# Altium schematic symbol library iMag.SchLib: 52 symbols
Pins are listed as number, name and electrical type; pins without a type are passive.

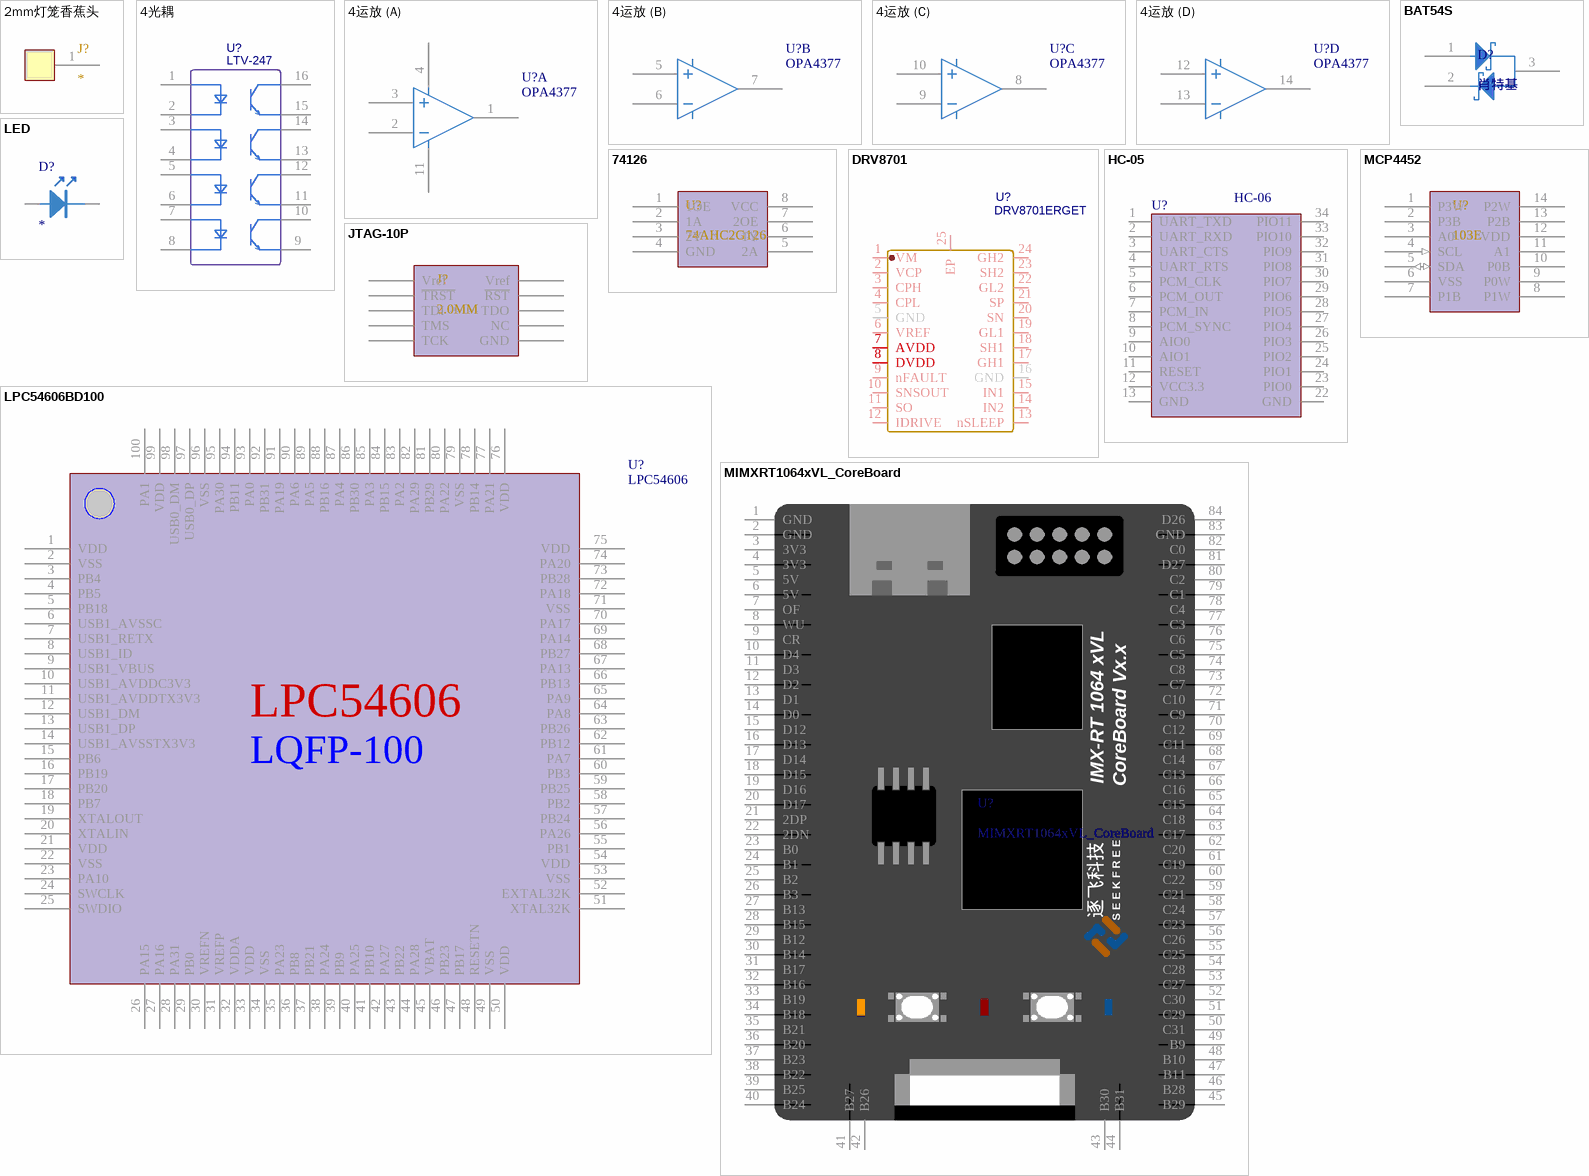
[diagram p0: symbols 2mm灯笼香蕉头 to MIMXRT1064xVL_CoreBoard]

## 2mm灯笼香蕉头
designator J?
footprint Model Name (Footprint not found)
footprint MOTOR (镀金香蕉头2mm)
pins: 1 0

## 4光耦
designator U?, comment LTV-247
BOM_Manufacturer: LITEON; Contributor: LCSC; SMT Type: Extend; BOM_Supplier: LCSC; BOM_Manufacturer Part: LTV-247; BOM_Supplier Part: C115451; BOM_LCSC Assembly: Yes; spicePre: U; spiceSymbolName: LTV-247
footprint WSOP-16 (_L10.3-W5.4-P1.27-LS7.8-BL)
pins: 1 AN1, 2 CAT1, 3 AN2, 4 CAT2, 5 AN3, 6 CAT3, 7 AN4, 8 CAT4, 9 EM4, 10 COL4, 11 EM3, 12 COL3, 13 EM2, 14 COL2, 15 EM1, 16 COL1

## 4运放
designator U?, comment OPA4377
footprint DIP-14
footprint SOIC-14_150MIL
footprint TSSOP-14 (4.96x4.40x1.00 e=0.65（蒜米工坊）)
part A pins: 1, 2, 3, 4, 11
part B pins: 5, 6, 7
part C pins: 8, 9, 10
part D pins: 12, 13, 14

## 74126
designator U?, comment 74AHC2G126
footprint VSSOP-8
pins: 1 1OE, 2 1A, 3 2Y, 4 GND, 5 2A, 6 1Y, 7 2OE, 8 VCC

## BAT54S
designator D?, comment 肖特基
footprint SOT-23 (SOT-23-3)
pins: 1, 2, 3

## DRV8701
designator U?, comment DRV8701ERGET
H桥驱动; BOM_Manufacturer: TI; Contributor: LCSC; BOM_Supplier: LCSC; BOM_Manufacturer Part: DRV8701ERGET; BOM_Supplier Part: C132049; spicePre: U
footprint VQFN-24_24PIN-L4.00-W4.00-PITCH0.50-EP-TL
pins: 1 VM, 2 VCP, 3 CPH, 4 CPL, 5 GND, 6 VREF, 7 AVDD, 8 DVDD, 9 nFAULT, 10 SNSOUT, 11 SO, 12 IDRIVE, 13 nSLEEP, 14 IN2, 15 IN1, 16 GND, 17 GH1, 18 SH1, 19 GL1, 20 SN, 21 SP, 22 GL2, 23 SH2, 24 GH2, 25 EP

## HC-05
designator U?, comment HC-06
蓝牙串口模块
footprint HC-05 (HC-05/06/08V15)
pins: 1 UART_TXD, 2 UART_RXD, 3 UART_CTS, 4 UART_RTS, 5 PCM_CLK, 6 PCM_OUT, 7 PCM_IN, 8 PCM_SYNC, 9 AIO0, 10 AIO1, 11 RESET, 12 VCC3.3, 13 GND, 22 GND, 23 PIO0, 24 PIO1, 25 PIO2, 26 PIO3, 27 PIO4, 28 PIO5, 29 PIO6, 30 PIO7, 31 PIO8, 32 PIO9, 33 PIO10, 34 PIO11

## JTAG-10P
designator J?, comment 2.0MM
footprint IDC-10P
pins: 1 Vref, 2 Vref, 3 ~{TRST}, 4 ~{RST}, 5 TDI, 6 TDO, 7 TMS, 8 NC, 9 TCK, 10 GND

## LED
designator D?
LED
footprint LED 0603B (蓝色0603LED)
footprint LED 0603G (绿色0603LED)
footprint LED 0603R (红色0603LED)
footprint LED 0603W (白色0603LED)
footprint LED 0603Y (黄色0603LED)
footprint LED0805
footprint LED0805红色
footprint LED0805绿色
footprint LED0805黄色
footprint LED-SMD_L1.7-W0.6-RD
pins: A 1, K 2

## LPC54606BD100
designator U?, comment LPC54606
footprint LQFP100 (100-pin low-profile quad flat)
footprint LQFP100 (100-pin low-profile quad flat)
pins: 1 VDD, 2 VSS, 3 PB4, 4 PB5, 5 PB18, 6 USB1_AVSSC, 7 USB1_RETX, 8 USB1_ID, 9 USB1_VBUS, 10 USB1_AVDDC3V3, 11 USB1_AVDDTX3V3, 12 USB1_DM, 13 USB1_DP, 14 USB1_AVSSTX3V3, 15 PB6, 16 PB19, 17 PB20, 18 PB7, 19 XTALOUT, 20 XTALIN, 21 VDD, 22 VSS, 23 PA10, 24 SWCLK, 25 SWDIO, 26 PA15, 27 PA16, 28 PA31, 29 PB0, 30 VREFN, 31 VREFP, 32 VDDA, 33 VDD, 34 VSS, 35 PA23, 36 PB8, 37 PB21, 38 PA24, 39 PB9, 40 PA25, 41 PB10, 42 PA27, 43 PB22, 44 PA28, 45 VBAT, 46 PB23, 47 PB17, 48 RESETN, 49 VSS, 50 VDD, 51 XTAL32K, 52 EXTAL32K, 53 VSS, 54 VDD, 55 PB1, 56 PA26, 57 PB24, 58 PB2, 59 PB25, 60 PB3, 61 PA7, 62 PB12, 63 PB26, 64 PA8, 65 PA9, 66 PB13, 67 PA13, 68 PB27, 69 PA14, 70 PA17, 71 VSS, 72 PA18, 73 PB28, 74 PA20, 75 VDD, 76 VDD, 77 PA21, 78 PB14, 79 VSS, 80 PA22, 81 PB29, 82 PA29, 83 PA2, 84 PB15, 85 PA3, 86 PB30, 87 PA4, 88 PB16, 89 PA5, 90 PA6, 91 PA19, 92 PB31, 93 PA0, 94 PB11, 95 PA30, 96 VSS, 97 USB0_DP, 98 USB0_DM, 99 VDD, 100 PA1
text: LQFP-100

## MCP4452
designator U?, comment 103E
footprint TSSOP-14 (4.96x4.40x1.00 e=0.65（蒜米工坊）)
pins: 1 P3W, 2 P3B, 3 A0, 4 SCL (in), 5 SDA (io), 6 VSS, 7 P1B, 8 P1W, 9 P0W, 10 P0B, 11 A1, 12 VDD, 13 P2B, 14 P2W

## MIMXRT1064xVL_CoreBoard
designator U?
逐飞科技i.MX RT1064核心板整体原理，可直接使用
footprint MIMXRT1064xVL_CoreBoard (逐飞科技i.MX RT1064核心板整体封装，可直接使用)
pins: 1 GND, 2 GND, 3 3V3, 4 3V3, 5 5V, 6 5V, 7 OF, 8 WU, 9 CR, 10 D4, 11 D3, 12 D2, 13 D1, 14 D0, 15 D12, 16 D13, 17 D14, 18 D15, 19 D16, 20 D17, 21 2DP, 22 2DN, 23 B0, 24 B1, 25 B2, 26 B3, 27 B13, 28 B15, 29 B12, 30 B14, 31 B17, 32 B16, 33 B19, 34 B18, 35 B21, 36 B20, 37 B23, 38 B22, 39 B25, 40 B24, 41 B27, 42 B26, 43 B30, 44 B31, 45 B29, 46 B28, 47 B11, 48 B10, 49 B9, 50 C31, 51 C29, 52 C30, 53 C27, 54 C28, 55 C25, 56 C26, 57 C23, 58 C24, 59 C21, 60 C22, 61 C19, 62 C20, 63 C17, 64 C18, 65 C15, 66 C16, 67 C13, 68 C14, 69 C11, 70 C12, 71 C9, 72 C10, 73 C7, 74 C8, 75 C5, 76 C6, 77 C3, 78 C4, 79 C1, 80 C2, 81 D27, 82 C0, 83 GND, 84 D26
text: IMX-RT 1064 xVL; CoreBoard Vx.x; 逐飞科技; S E E K F R E E

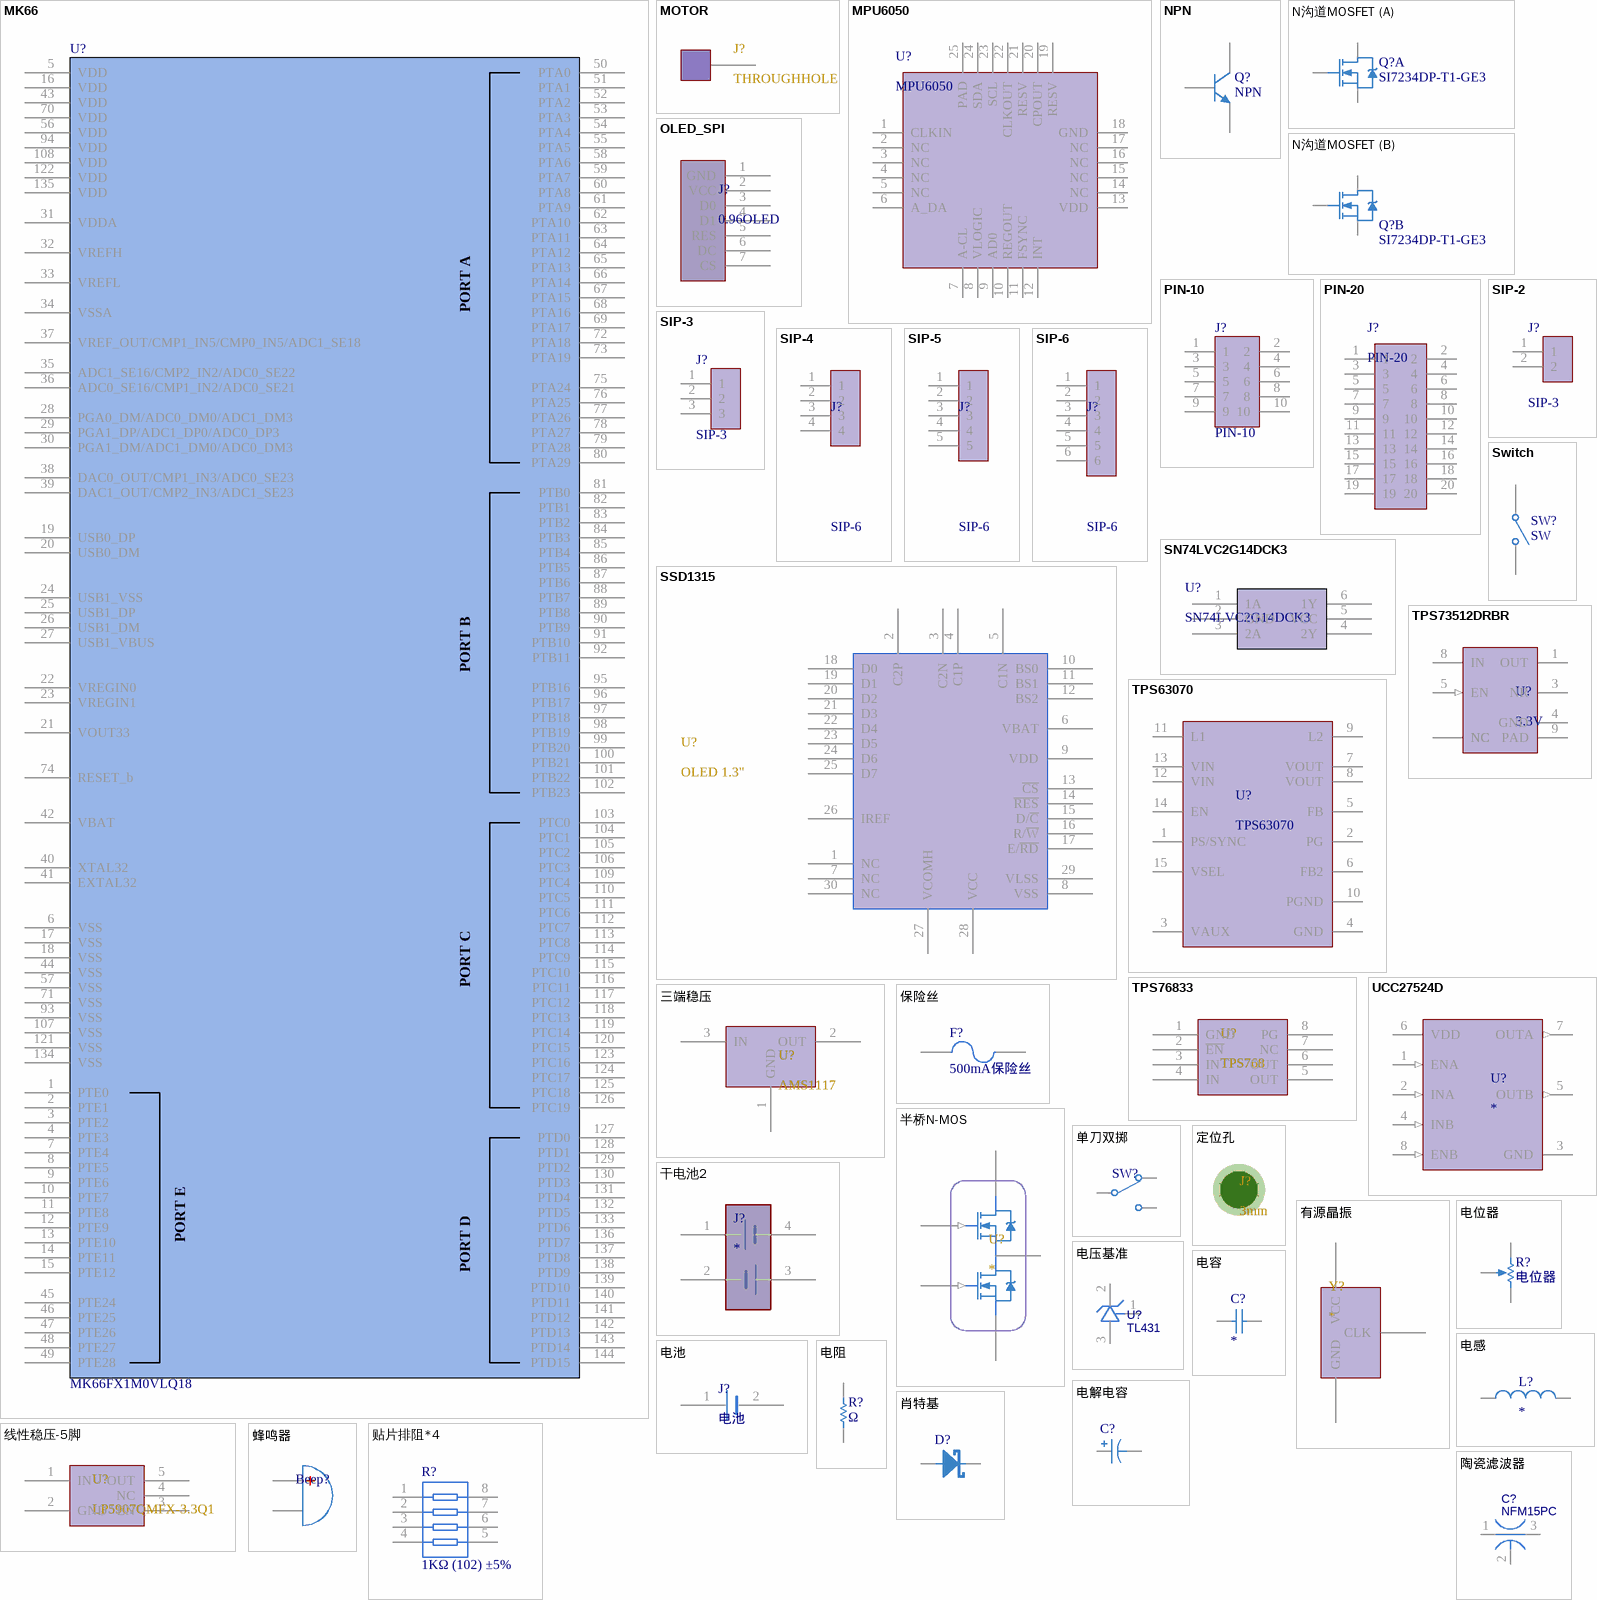
[diagram p1: symbols MK66 to 陶瓷滤波器]

## MK66
designator U?, comment MK66FX1M0VLQ18
footprint LQFP144 20X20
pins: 1 PTE0, 2 PTE1, 3 PTE2, 4 PTE3, 5 VDD, 6 VSS, 7 PTE4, 8 PTE5, 9 PTE6, 10 PTE7, 11 PTE8, 12 PTE9, 13 PTE10, 14 PTE11, 15 PTE12, 16 VDD, 17 VSS, 18 VSS, 19 USB0_DP, 20 USB0_DM, 21 VOUT33, 22 VREGIN0, 23 VREGIN1, 24 USB1_VSS, 25 USB1_DP, 26 USB1_DM, 27 USB1_VBUS, 28 PGA0_DM/ADC0_DM0/ADC1_DM3, 29 PGA1_DP/ADC1_DP0/ADC0_DP3, 30 PGA1_DM/ADC1_DM0/ADC0_DM3, 31 VDDA, 32 VREFH, 33 VREFL, 34 VSSA, 35 ADC1_SE16/CMP2_IN2/ADC0_SE22, 36 ADC0_SE16/CMP1_IN2/ADC0_SE21, 37 VREF_OUT/CMP1_IN5/CMP0_IN5/ADC1_SE18, 38 DAC0_OUT/CMP1_IN3/ADC0_SE23, 39 DAC1_OUT/CMP2_IN3/ADC1_SE23, 40 XTAL32, 41 EXTAL32, 42 VBAT, 43 VDD, 44 VSS, 45 PTE24, 46 PTE25, 47 PTE26, 48 PTE27, 49 PTE28, 50 PTA0, 51 PTA1, 52 PTA2, 53 PTA3, 54 PTA4, 55 PTA5, 56 VDD, 57 VSS, 58 PTA6, 59 PTA7, 60 PTA8, 61 PTA9, 62 PTA10, 63 PTA11, 64 PTA12, 65 PTA13, 66 PTA14, 67 PTA15, 68 PTA16, 69 PTA17, 70 VDD, 71 VSS, 72 PTA18, 73 PTA19, 74 RESET_b, 75 PTA24, 76 PTA25, 77 PTA26, 78 PTA27, 79 PTA28, 80 PTA29, 81 PTB0, 82 PTB1, 83 PTB2, 84 PTB3, 85 PTB4, 86 PTB5, 87 PTB6, 88 PTB7, 89 PTB8, 90 PTB9, 91 PTB10, 92 PTB11, 93 VSS, 94 VDD, 95 PTB16, 96 PTB17, 97 PTB18, 98 PTB19, 99 PTB20, 100 PTB21, 101 PTB22, 102 PTB23, 103 PTC0, 104 PTC1, 105 PTC2, 106 PTC3, 107 VSS, 108 VDD, 109 PTC4, 110 PTC5, 111 PTC6, 112 PTC7, 113 PTC8, 114 PTC9, 115 PTC10, 116 PTC11, 117 PTC12, 118 PTC13, 119 PTC14, 120 PTC15, 121 VSS, 122 VDD, 123 PTC16, 124 PTC17, 125 PTC18, 126 PTC19, 127 PTD0, 128 PTD1, 129 PTD2, 130 PTD3, 131 PTD4, 132 PTD5, 133 PTD6, 134 VSS, 135 VDD, 136 PTD7, 137 PTD8, 138 PTD9, 139 PTD10, 140 PTD11, 141 PTD12, 142 PTD13, 143 PTD14, 144 PTD15
text: PORT A; PORT B; PORT C; PORT E; PORT D

## MOTOR
designator J?, comment THROUGHHOLE
footprint MOTOR (镀金香蕉头2mm)
pins: 1

## MPU6050
designator U?
footprint QFN-24_4x4x05P
pins: 1 CLKIN, 2 NC, 3 NC, 4 NC, 5 NC, 6 A_DA, 7 A-CL, 8 VLOGIC, 9 AD0, 10 REGOUT, 11 FSYNC, 12 INT, 13 VDD, 14 NC, 15 NC, 16 NC, 17 NC, 18 GND, 19 RESV, 20 CPOUT, 21 RESV, 22 CLKOUT, 23 SCL, 24 SDA, 25 PAD

## NPN
designator Q?
NPN Bipolar Transistor; Published: 8-Jun-2000; LatestRevisionDate: 17-Jul-2002; LatestRevisionNote: Re-released for DXP Platform.; PackageReference: TO-226-AA; Publisher: Altium Limited; PackageDescription: TO, Flat Index; 3 In-Line, Axial Leads; Body Dia. 4.8mm; Leads 0.55 x 0.51 mm (max); Code_JEDEC: TO-226-AA
footprint SOT-23 (SOT-23-3)
simulation model NPN
signal-integrity model NPN
pins: 1 B, 2 E, 3 C

## N沟道MOSFET
designator Q?, comment SI7234DP-T1-GE3
CQ-BS170
footprint DFN-8EP2 (DFN-8_L5.5-W5.2-P1.27-LS6.0-BL-EP2)
part A pins: 1 S, 2 G, 6 D
part B pins: 3 S, 4 G, 5 D

## OLED_SPI
designator J?, comment 0.96OLED
footprint OLED 0.96
pins: 1 GND, 2 VCC, 3 D0, 4 D1, 5 RES, 6 DC, 7 CS

## PIN-10
designator J?
footprint 2.54简易牛角座10P
footprint 2.54简易牛角座弯针10P
footprint 2.54母排座双排10P
footprint 2.54弯排针2X5
footprint JTAG_10P
footprint 2.54排针2X5
pins: 1, 2, 3, 4, 5, 6, 7, 8, 9, 10

## PIN-20
designator J?
footprint 2.54排针2X10
footprint 2.54弯排针2X10
footprint 2.54简易牛角座20p
footprint 2.54简易牛角座弯针20P
footprint 2.54母排座双排20P
footprint 4.2接插件20P
footprint IDC-TH_2.0-2*10
pins: 1, 2, 3, 4, 5, 6, 7, 8, 9, 10, 11, 12, 13, 14, 15, 16, 17, 18, 19, 20

## SIP-2
designator J?, comment SIP-3
footprint 5.08接线端子3位
footprint 5.08接线端子3P
footprint 2.54接插件3P
footprint 2.54接插件3P
footprint 2.54排针1X3
footprint 2.54弯排针1X3-A
footprint 2.54弯排针1X3
footprint 2.54对插件3P
footprint 2.54XH接插件3P
footprint XH2.54-3SMD (CONN-SMD_3P-P2.54_XH2.54-3AB)
footprint 2.0排针3P
footprint PH2.0-2P (CONN-SMD_2P-P2.00_A2001WR-S-2P)
footprint GH1.25-2P
pins: 1, 2

## SIP-3
designator J?
footprint 5.08接线端子3位
footprint 5.08接线端子3P
footprint 2.54接插件3P
footprint 2.54接插件3P
footprint 2.54排针1X3
footprint 2.54弯排针1X3-A
footprint 2.54弯排针1X3
footprint 2.54对插件3P
footprint 2.54XH接插件3P
footprint XH2.54-3SMD (CONN-SMD_3P-P2.54_XH2.54-3AB)
footprint 2.0排针3P
pins: 1, 2, 3

## SIP-4
designator J?, comment SIP-6
footprint 2.0排针4P
pins: 1, 2, 3, 4

## SIP-5
designator J?, comment SIP-6
footprint 2.54排针1X5
footprint PH2.0-5P
pins: 1, 2, 3, 4, 5

## SIP-6
designator J?
footprint 5.08接线端子6位
footprint 5.08接插件6P
footprint 2.54接插件6P
footprint 2.54排针1X6
footprint 2.54弯排针1X6-A
footprint 2.54弯排针1X6
footprint 2.54对插件6P
footprint 2.54XH接插件6P
footprint 2.54简易牛角座6P
footprint PH2.0-6P
footprint PH2.0-6_SMD
pins: 1, 2, 3, 4, 5, 6

## SN74LVC2G14DCK3
designator U?
门级和反向器; SourceLibrary: TI_2020-07-01; Built_By: EMA_Matt; Vendor: Texas Instruments; Manufacturer_Part_Number: SN74LVC2G14DCK3; Datasheet: https://www.ti.com/lit/ds/symlink/sn74lvc2g14.pdf?HQS=TI-null-null-mousermode-df-pf-null-wwe&ts=1593468560008&ref_url=https%253A%252F%252Fwww.mouser.com%252F; Copyright: Copyright (C) 2018 Accelerated Designs. All rights reserved; RefDes: RefDes; Type: DEV
footprint SOIC_G14DCK3_TEX
footprint SC70
pins: 1 1A, 2 GND, 3 2A, 4 2Y, 5 VCC, 6 1Y

## SSD1315
designator U?, comment OLED 1.3"
SSD1306
footprint OLED1.3" (OLED_UG-9664HDDAG01)
pins: 1 NC, 2 C2P, 3 C2N, 4 C1P, 5 C1N, 6 VBAT, 7 NC, 8 VSS, 9 VDD, 10 BS0, 11 BS1, 12 BS2, 13 ~{CS}, 14 ~{RES}, 15 D/~{C}, 16 R/~{W}, 17 E/~{RD}, 18 D0, 19 D1, 20 D2, 21 D3, 22 D4, 23 D5, 24 D6, 25 D7, 26 IREF, 27 VCOMH, 28 VCC, 29 VLSS, 30 NC

## Switch
designator SW?, comment SW
Single-Pole, Single-Throw Switch
footprint 按键微动开关2
footprint 侧按钮
footprint 轻触开关6.2*6.2(5p) SMD
footprint KEY-SMD_4P-L4.2-W3.2-P2.20-LS4.6
pins: 1 COMMON, 2 NO

## TPS63070
designator U?
footprint VQFN-15
pins: 1 PS/SYNC, 2 PG, 3 VAUX, 4 GND, 5 FB, 6 FB2, 7 VOUT, 8 VOUT, 9 L2, 10 PGND, 11 L1, 12 VIN, 13 VIN, 14 EN, 15 VSEL

## TPS73512DRBR
designator U?, comment 3.3V
No Description Available; PartNumber: TPS73512DRBR; Alternate_PartNumber: TPS73512DRBT; Manufacturer: Texas Instruments; CompType: IC; PIN_COUNT: 9; Application_BuildNumber: *; PackageReference: DRB0008A; MountType: SMT; RoHS: Y; RefDes: RefDes; Type: DEV; Value: Value; Copyright: Copyright (C) 2018 Accelerated Designs. All rights reserved
footprint VSON-8
pins: 1 OUT (power), 2 NC, 3 NR, 4 GND (power), 5 EN (in), 6 NC, 7 NC, 8 IN (power), 9 PAD (power)

## TPS76833
designator U?, comment TPS768
footprint SOIC8-3.9MM
pins: 1 GND, 2 ~{EN}, 3 IN, 4 IN, 5 OUT, 6 OUT, 7 NC, 8 PG

## UCC27524D
designator U?
No Description Available; PartNumber: UCC27524DR; Manufacturer: Texas Instruments; RefDes: RefDes; Type: DEV; Value: Value; Copyright: Copyright (C) 2018 Accelerated Designs. All rights reserved
footprint D0008A_N
footprint TSSOP-8EP (TSSOP-8_L3.0-W3.0-P0.65-LS4.9-BL-EP)
pins: 1 ENA (in), 2 INA (in), 3 GND (power), 4 INB (in), 5 OUTB (out), 6 VDD (power), 7 OUTA (out), 8 ENB (in)

## 三端稳压
designator U?, comment AMS1117
footprint AMS1117
pins: 1 GND, 2 OUT, 3 IN

## 保险丝
designator F?, comment 500mA保险丝
500mA保险丝  1210; Published: 8-Jun-2000; LatestRevisionDate: 17-Jul-2002; LatestRevisionNote: Re-released for DXP Platform.; PackageReference: PIN-W2/E2.8; Publisher: Altium Limited; PackageDescription: Thru-Hole; 2 Leads
simulation model FUSE (Spice Subcircuit)
footprint FUSE-1210
pins: 1, 2

## 半桥N-MOS
designator U?
footprint VDFN8 (V-DFN3030-8K_L3.0-W3.0-P0.65-BL)
pins: 1 GH (in), 2 D, 3 D, 4 D, 5 SL, 6 SL, 7 S, 8 GL (in), 9, 10 D

## 单刀双掷
designator SW?, comment K3-1235S-K1  (value not drawn)
Switch
footprint K3-1235S-K1
footprint SW-TH_3PIN_SK12D07VG4
footprint SW-TH_3PIN_SK12D07VG4 - duplicate
pins: 1, 2, 3

## 定位孔
designator J?, comment 3mm
footprint 定位孔 3mm

## 干电池2
designator J?
footprint 18650x2 (2节电池座)
pins: 1 +, 2 +, 3 +, 4 +

## 有源晶振
designator Y?
footprint OSC 5032-4P
pins: 2 GND, 3 CLK, 4 VCC

## 电位器
designator R?
footprint 3296W
pins: 1 TOP, 2 TAP, 3 BOT

## 电压基准
designator U?, comment TL431
BOM_Manufacturer: PJ(Pingjingsemi); Contributor: LCSC; SMT Type: Extend; BOM_Supplier: LCSC; BOM_Supplier Part: C411752; BOM_Manufacturer Part: TL431; BOM_LCSC Assembly: Yes; spicePre: U; spiceSymbolName: TL431_C411752
footprint SOT-23 (SOT-23-3)
pins: 1 R, 2 K, 3 A

## 电容
designator C?
Capacitor; Value: 22pF; Published: 8-Jun-2000; LatestRevisionDate: 17-Jul-2002; LatestRevisionNote: Re-released for DXP Platform.; PackageReference: RAD-0.3; Publisher: Altium Limited; PackageDescription: Radial Cap, Thru-Hole; 2 Leads; 0.3 in Pin Spacing
footprint C1206 (3216/A型)
footprint C0603
footprint 0805C
footprint 1.5CM (CBB)
footprint 5mm (插件)
footprint 120603 (兼容)
footprint C0402
pins: 1, 2

## 电感
designator L?
footprint L5X4
footprint L5X5
footprint L7X7 (POWER INDUCTOR 5uH)
footprint L10X10
footprint L12X12
footprint L25X25
footprint L0402 (1/16W)
footprint L0603
footprint L0805 (1/8W)
footprint L1008 (2520)
footprint L1206 (1/4W)
footprint L1210
footprint L1808
footprint L1812
footprint L2220
footprint L2525
footprint 120603 (兼容)
footprint L0603
footprint LD8x10 (直插8x10mm电感)
pins: 1, 2

## 电池
designator J?
footprint T插
footprint BAT
footprint MX2.0 (空对空)
pins: 1 +, 2 -

## 电解电容
designator C?
Polarized Capacitor (Axial); Value: 100pF; Published: 8-Jun-2000; LatestRevisionDate: 17-Jul-2002; LatestRevisionNote: Re-released for DXP Platform.; PackageReference: POLAR0.8; Publisher: Altium Limited; PackageDescription: Polarized Capacitor; 2 Leads
simulation model CAP (Capacitor)
signal-integrity model Cap Pol
footprint 5mm (插件)
footprint 贴片电解 8*10.2
footprint 贴片电解 6.3*5.4
footprint 贴片电解 10*10.5
footprint 贴片电解 4*5.4
footprint 3216-ce
footprint 3528-CE
footprint 6032-CE
footprint 7243-CE
pins: 1, 2
1 alternate drawing of the same symbol

## 电阻
designator R?, comment Ω
Resistor; Value: 150R; Published: 8-Jun-2000; LatestRevisionDate: 17-Jul-2002; LatestRevisionNote: Re-released for DXP Platform.; PackageReference: AXIAL-0.3; Publisher: Altium Limited; PackageDescription: Axial Device, Thru-Hole; 2 Leads; 0.3 in Pin Spacing
footprint R1206 (1/4W)
footprint 大
footprint R0402 (1/16W)
footprint R0603 (1/10W)
footprint R2512
footprint 120603 (兼容)
footprint R0805 (1/8W)
footprint R1812
footprint R2010
pins: 1, 2

## 线性稳压-5脚
designator U?, comment LP5907QMFX-3.3Q1
footprint SOT-23-5
pins: 1 IN, 2 GND, 3 EN, 4 NC, 5 OUT

## 肖特基
designator D?
Schottky Diode
footprint DO-35
footprint SMA (DO-214AC)
footprint DO-214AC（SMA）
footprint SOD-123F (2.7x1.6X1.1mm（长宽高，不包括引脚）)
footprint SOD-123
pins: 1 A, 2 K

## 蜂鸣器
designator Beep?  (value not drawn)
footprint SMD-BUZZER-9.6X9.6X5
footprint Beep-5.0*5.0
pins: 1 A, 2 B

## 贴片排阻*4
designator R?, comment 1KΩ (102) ±5%
贴片排阻; ComponentLink1Description: 供应商链接; ComponentLink1URL: http://www.szlcsc.com/product/details_20907.html; Package: 0603*4; Supplier: LC; SuppliersPartNumber: C20197
footprint 0603_Rx4 (贴片排阻)
pins: 1, 2, 3, 4, 5, 6, 7, 8

## 陶瓷滤波器
designator C?, comment NFM15PC
BOM_Manufacturer: Murata Electronics; BOM_Manufacturer Part: NFM15PC473C1C3D; Capacitance: 47nF; Contributor: LCSC; BOM_Supplier: LCSC; BOM_Supplier Part: C162672; spicePre: U; spiceSymbolName: NFM15PC473C1C3D
footprint FILTER-SMD_3P-L1.0-W0.5-L
pins: 1 IN, 2 GND, 3 OUT

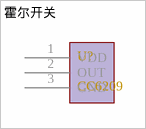
[diagram p2: symbol 霍尔开关]

## 霍尔开关
designator U?, comment CC6209
footprint SOT-23 (SOT-23-3)
pins: 1 VDD, 2 OUT, 3 GND